# EAGLE library part KSZ8041NL (library Septentriom_mosaic-X5)
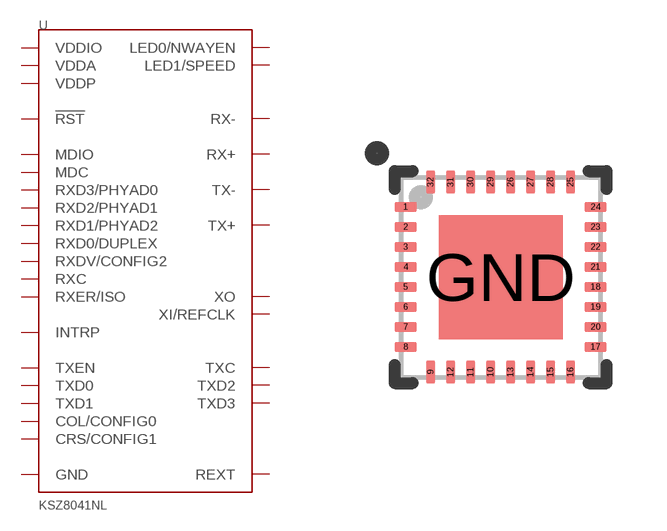
[diagram p1: symbol with the pads of MLF55Q-32LD; footprint MLF55Q-32LD]

Designator prefix -

## KSZ8041NL  [MLF55Q-32LD]
1  GND  pwr
2  VDDP
3  VDDA  pwr
4  RX-
5  RX+
6  TX-
7  TX+
8  XO
9  XI/REFCLK
10  REXT
11  MDIO
12  MDC
13  RXD3/PHYAD0
14  RXD2/PHYAD1
15  RXD1/PHYAD2
16  RXD0/DUPLEX
17  VDDIO  pwr
18  RXDV/CONFIG2
19  RXC
20  RXER/ISO
21  INTRP
22  TXC
23  TXEN
24  TXD0
25  TXD1
26  TXD2
27  TXD3
28  COL/CONFIG0
29  CRS/CONFIG1
30  LED0/NWAYEN  out
31  LED1/SPEED  out
32  !RST!
GND  GND  pwr

## Footprint MLF55Q-32LD (pad centres in mm)
smd 0.55 x 0.23: 1 -2.375,1.75; 2 -2.375,1.25; 3 -2.375,0.75; 4 -2.375,0.25; 5 -2.375,-0.25; 6 -2.375,-0.75; 7 -2.375,-1.25; 8 -2.375,-1.75; 17 2.375,-1.75; 18 2.375,-0.25; 19 2.375,-0.75; 20 2.375,-1.25; 21 2.375,0.25; 22 2.375,0.75; 23 2.375,1.25; 24 2.375,1.75
smd 0.23 x 0.55: 9 -1.75,-2.375; 10 -0.25,-2.375; 11 -0.75,-2.375; 12 -1.25,-2.375; 13 0.25,-2.375; 14 0.75,-2.375; 15 1.25,-2.375; 16 1.75,-2.375; 25 1.75,2.375; 26 0.25,2.375; 27 0.75,2.375; 28 1.25,2.375; 29 -0.25,2.375; 30 -0.75,2.375; 31 -1.25,2.375; 32 -1.75,2.375
smd 3.1 x 3.1: GND 0,0